# EAGLE library part 6130? (library Volks73-WurthElectronics)
14-Pin Right-Angle Male Header WR-PHD Documentation Drawing <http://katalog.we-online.de/em/datasheet/6130xx11021.pdf>
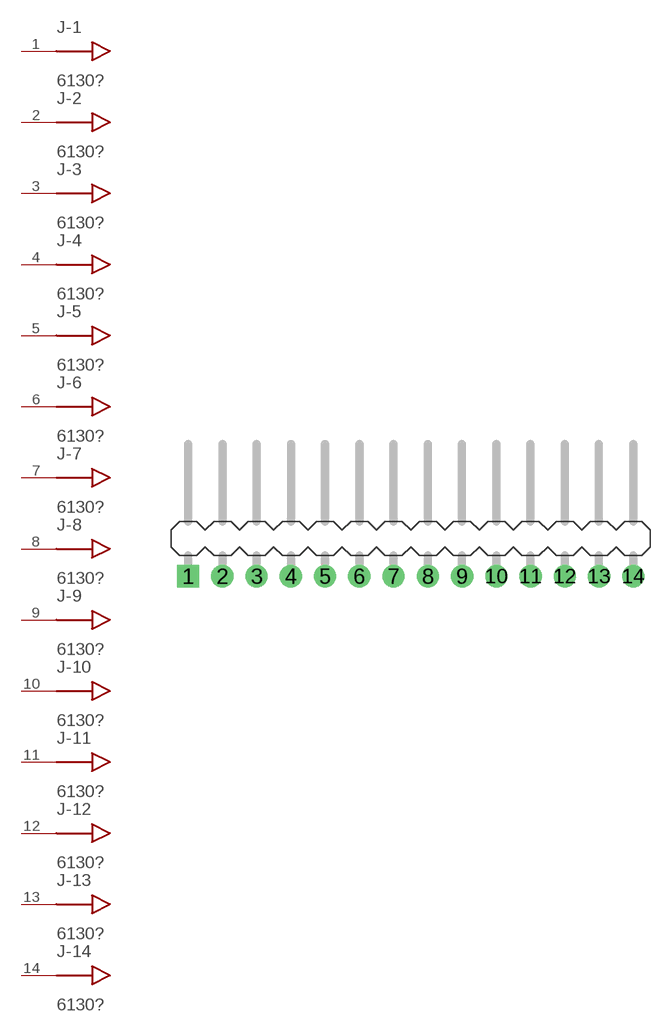
[diagram p0: symbol with the pads of 1411021; footprint 1411021]

Designator prefix J; gates -1=MALE_CONNECTOR -2=MALE_CONNECTOR -3=MALE_CONNECTOR -4=MALE_CONNECTOR -5=MALE_CONNECTOR -6=MALE_CONNECTOR -7=MALE_CONNECTOR -8=MALE_CONNECTOR -9=MALE_CONNECTOR -10=MALE_CONNECTOR -11=MALE_CONNECTOR -12=MALE_CONNECTOR -13=MALE_CONNECTOR -14=MALE_CONNECTOR

## 61301411021 (CATEGORY: Connectors, Interconnects; COLOR: Black; CONNECTOR_TYPE: Header, Unshrouded; CONTACT_FINISH: Gold; CONTACT_FINISH_THICKNESS: -; CONTACT_MATING_LENGTH: 0.236" (6.00mm); CONTACT_TYPE: Male Pin; DESCRIPTION: CONN HEADER 14 POS RA 2.54; DOCUMENTATION_LINK: <a href="http://katalog.we-online.de/em/datasheet/6130xx11021.pdf">Drawing</a>; DOCUMENTATION_URL: http://katalog.we-online.de/em/datasheet/6130xx11021.pdf; FAMILY: Rectangular Connectors - Headers, Male Pins; FASTENING_TYPE: -; FEATURES: -; MANUFACTURER: Wurth Electronics Inc; MOUNTING_TYPE: Through Hole, Right Angle; NUMBER_OF_POSITIONS: 14; NUMBER_OF_POSITIONS_LOADED: All; NUMBER_OF_ROWS: 1; PACKAGING: Bulk; PART_NUMBER: 61301411021; PITCH: 0.100" (2.54mm); ROW_SPACING: -; SERIES: WR-PHD; SUPPLIER_ITEM_LINK: <a href="http://www.digikey.com/product-search/en?keywords=732-5344-ND">Details</a>; SUPPLIER_ITEM_NUMBER: 732-5344-ND; SUPPLIER_ITEM_URL: http://www.digikey.com/product-search/en?keywords=732-5344-ND; SUPPLIER_LINK: <a href="http://www.digikey.com">Digi-Key</a>; SUPPLIER_NAME: Digi-Key; SUPPLIER_URL: http://www.digikey.com; TERMINATION: Solder)  [1411021]
1  -1:P$1
2  -2:P$1
3  -3:P$1
4  -4:P$1
5  -5:P$1
6  -6:P$1
7  -7:P$1
8  -8:P$1
9  -9:P$1
10  -10:P$1
11  -11:P$1
12  -12:P$1
13  -13:P$1
14  -14:P$1

## Footprint 1411021 (pad centres in mm)
14-Pin Male Header, Right Angle, Through Hole, 0.100" (2.54mm) Lead Spacing WR-PHD
drill 1.1 square: 1 -16.51,0
drill 1.1: 2 -13.97,0; 3 -11.43,0; 4 -8.89,0; 5 -6.35,0; 6 -3.81,0; 7 -1.27,0; 8 1.27,0; 9 3.81,0; 10 6.35,0; 11 8.89,0; 12 11.43,0; 13 13.97,0; 14 16.51,0